# Altium schematic symbol library Darlington Transistor arrays.SchLib: 2 symbols
Pins are listed as number, name and electrical type; pins without a type are passive.

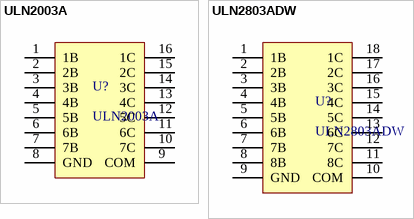
[diagram p0: symbols ULN2003A to ULN2803ADW]

## ULN2003A
designator U?
Transistor array, 7 pairs; Datasheet: http://www.ti.com/lit/ds/symlink/uln2003a.pdf
footprint LC-SOIC-16_150mil
pins: 1 1B, 2 2B, 3 3B, 4 4B, 5 5B, 6 6B, 7 7B, 8 GND, 9 COM, 10 7C, 11 6C, 12 5C, 13 4C, 14 3C, 15 2C, 16 1C

## ULN2803ADW
designator U?
Transistor array, 8 pairs
footprint LC-SOIC-18_300mil
pins: 1 1B, 2 2B, 3 3B, 4 4B, 5 5B, 6 6B, 7 7B, 8 8B, 9 GND, 10 COM, 11 8C, 12 7C, 13 6C, 14 5C, 15 4C, 16 3C, 17 2C, 18 1C